# EAGLE library part LTC1661 (library ads4)
10-Bit Dual D/A Converter
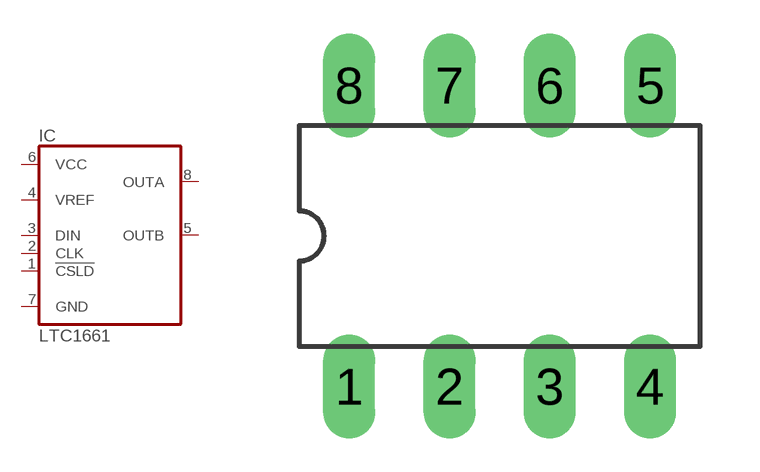
[diagram p4: symbol with the pads of DIL08; footprint DIL08]

Designator prefix IC

## LTC1661N  [DIL08]
1  !CSLD  in
2  CLK  in
3  DIN  in
4  VREF  in
5  OUTB  out
6  VCC  pwr
7  GND  pwr
8  OUTA  out

## Footprint DIL08 (pad centres in mm)
8-pin Dual-In Line (copied from 74xx-us.lbr)
drill 0.813 long: 1 -3.81,-3.81; 2 -1.27,-3.81; 3 1.27,-3.81; 4 3.81,-3.81; 5 3.81,3.81; 6 1.27,3.81; 7 -1.27,3.81; 8 -3.81,3.81